# EAGLE library part RAK811 (library RAK811)
RAK811. High radio freqency LoRa Radio hardware, supports the regions of EU868, US915, AU915, KR920, AS923, IN865.
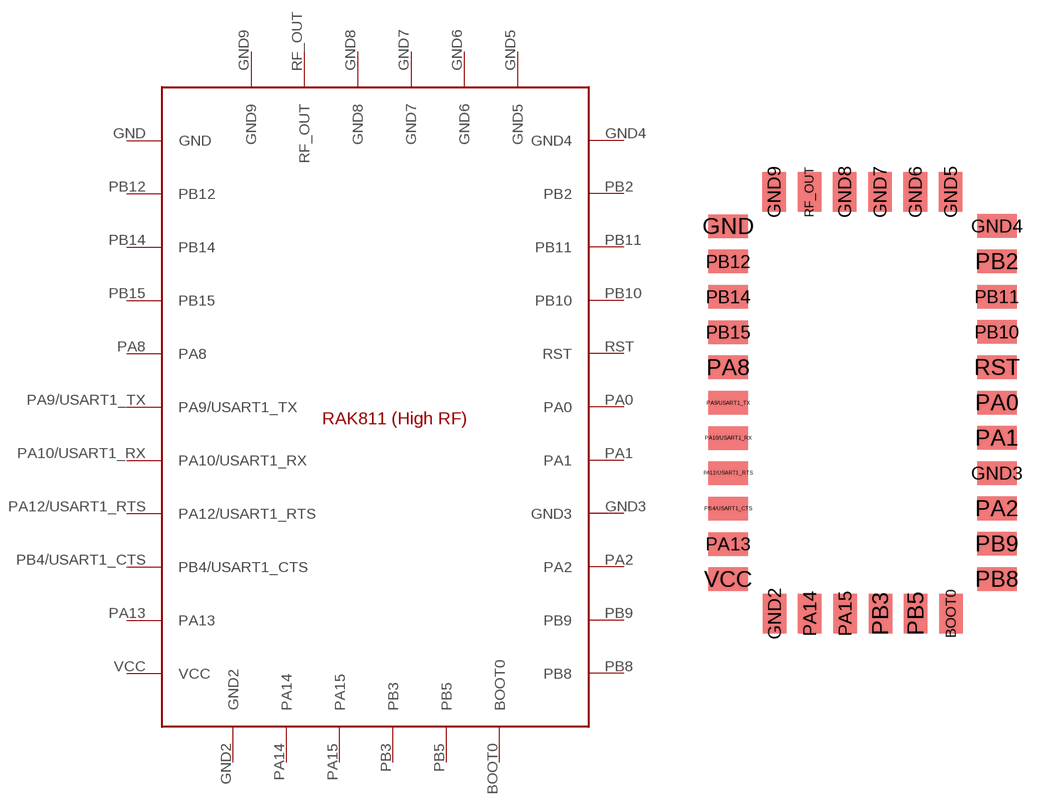
[diagram p0: symbol with the pads of RAK811; footprint RAK811]

Designator prefix -

## RAK811HRF  [RAK811]
BOOT0  BOOT0
GND  GND
GND2  GND2
GND3  GND3
GND4  GND4
GND5  GND5
GND6  GND6
GND7  GND7
GND8  GND8
GND9  GND9
PA0  PA0
PA1  PA1
PA2  PA2
PA8  PA8
PA9/USART1_TX  PA9/USART1_TX
PA10/USART1_RX  PA10/USART1_RX
PA12/USART1_RTS  PA12/USART1_RTS
PA13  PA13
PA14  PA14
PA15  PA15
PB2  PB2
PB3  PB3
PB4/USART1_CTS  PB4/USART1_CTS
PB5  PB5
PB8  PB8
PB9  PB9
PB10  PB10
PB11  PB11
PB12  PB12
PB14  PB14
PB15  PB15
RF_OUT  RF_OUT
RST  RST
VCC  VCC

## Footprint RAK811 (pad centres in mm)
RAK811 Hight RF 868 MHZ footprint
smd 1.2 x 2: BOOT0 11.26,-19.75; GND2 2.26,-19.75; GND5 11.24,1.75; GND6 9.44,1.75; GND7 7.64,1.75; GND8 5.84,1.75; GND9 2.24,1.75; PA14 4.06,-19.75; PA15 5.86,-19.75; PB3 7.66,-19.75; PB5 9.46,-19.75; RF_OUT 4.04,1.75
smd 2 x 1.2: GND -0.1,0; GND3 13.6,-12.59; GND4 13.6,0.01; PA0 13.6,-8.99; PA1 13.6,-10.79; PA2 13.6,-14.39; PA8 -0.1,-7.2; PA9/USART1_TX -0.1,-9; PA10/USART1_RX -0.1,-10.8; PA12/USART1_RTS -0.1,-12.6; PA13 -0.1,-16.2; PB2 13.6,-1.79; PB4/USART1_CTS -0.1,-14.4; PB8 13.6,-17.99; PB9 13.6,-16.19; PB10 13.6,-5.39; PB11 13.6,-3.59; PB12 -0.1,-1.8; PB14 -0.1,-3.6; PB15 -0.1,-5.4; RST 13.6,-7.19; VCC -0.1,-18